# Altium footprint library PEP1-S5-D12-M.PcbLib: 1 footprints
Each footprint in its own frame and in the unit in brackets; x right, y up, seen from the top. Pads: shape width x height; smd on the part's side, far side on the other; paste and mask are expansions set on the pad; w line width, h text height; cw(c..) or ccw(c..) is an arc to the next point about the centre after c.
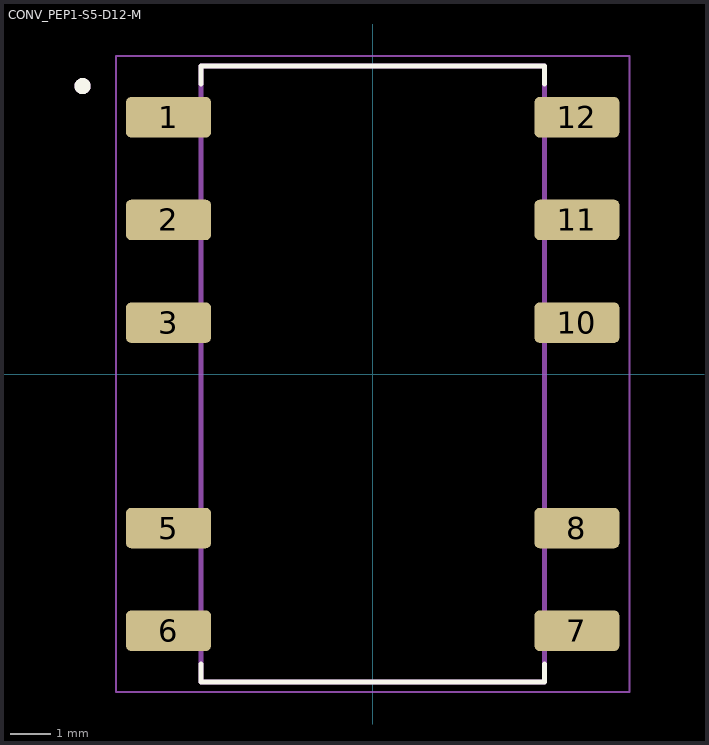
[diagram p0: the footprint, top view; thin cyan lines are the x and y axes]

## CONV_PEP1-S5-D12-M [mm]
pads (10):
  rrect25% 2.1x1 smd: 1(-5.05,6.35) 2(-5.05,3.81) 3(-5.05,1.27) 5(-5.05,-3.81) 6(-5.05,-6.35) 7(5.05,-6.35) 8(5.05,-3.81) 10(5.05,1.27) 11(5.05,3.81) 12(5.05,6.35)
Top Overlay:
  circle w0.2: c-7.175,7.12 r0.1
  lines w0.127: -4.25,-7.17 -4.25,-7.62 4.25,-7.62 4.25,-7.17 ; -4.25,7.17 -4.25,7.62 4.25,7.62 4.25,7.17
Mechanical 13:
  circle w0.2: c-7.175,7.12 r0.1
  lines w0.127: -4.25,-7.62 -4.25,7.62 4.25,7.62 4.25,-7.62 -4.25,-7.62
Mechanical 15:
  lines w0.05: -6.35,-7.87 -6.35,7.87 6.35,7.87 6.35,-7.87 -6.35,-7.87
3D body "step_temp.STEP": height 5, standoff -2.25, extent -7.62,-5.7 7.62,5.7